# EAGLE library part AD5263* (library NewSDR)
Quad, 15V, 256-Position, Digital Potentiometer with Pin Selectable SPI/I2C Analog Devices
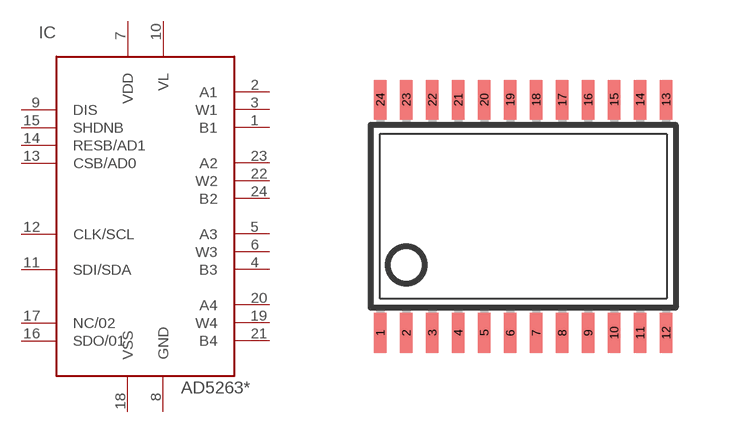
[diagram p36: symbol with the pads of TSSOP24; footprint TSSOP24]

Designator prefix IC

## AD5263BRU20, AD5263BRU200  [TSSOP24]
1  B1  pas
2  A1  pas
3  W1  pas
4  B3  pas
5  A3  pas
6  W3  pas
7  VDD  pwr
8  GND  pwr
9  DIS
10  VL  in
11  SDI/SDA
12  CLK/SCL
13  CSB/AD0  in
14  RESB/AD1  in
15  SHDNB  in
16  SDO/01
17  NC/02
18  VSS  pwr
19  W4  pas
20  A4  pas
21  B4  pas
22  W2  pas
23  A2  pas
24  B2  pas

## Footprint TSSOP24 (pad centres in mm)
Thin Shrink Small Outline Plastic 24 Source: MAX3223-MAX3243.pdf
smd 0.305 x 0.991: 1 -3.575,-2.918; 2 -2.925,-2.918; 3 -2.275,-2.918; 4 -1.625,-2.918; 5 -0.975,-2.918; 6 -0.325,-2.918; 7 0.325,-2.918; 8 0.975,-2.918; 9 1.625,-2.918; 10 2.275,-2.918; 11 2.925,-2.918; 12 3.575,-2.918; 13 3.575,2.918; 14 2.925,2.918; 15 2.275,2.918; 16 1.625,2.918; 17 0.975,2.918; 18 0.325,2.918; 19 -0.325,2.918; 20 -0.975,2.918; 21 -1.625,2.918; 22 -2.275,2.918; 23 -2.925,2.918; 24 -3.575,2.918